# Altium schematic symbol library LP5036.SchLib: 1 symbol
Pins are listed as number, name and electrical type; pins without a type are passive.

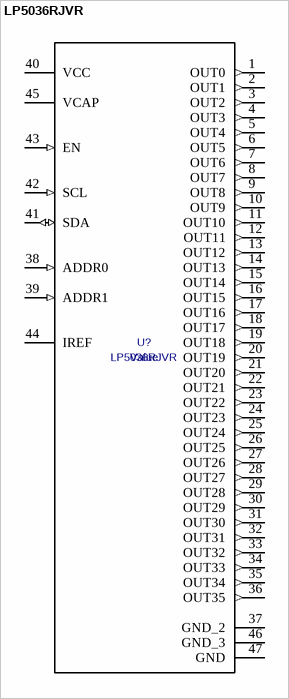
[diagram p0: symbol LP5036RJVR]

## LP5036RJVR
designator U?
Manufacturer: Texas Instruments; PartNumber: LP5036RJVR; Value: Value
footprint RJV0046A
pins: 1 OUT0 (out), 2 OUT1 (out), 3 OUT2 (out), 4 OUT3 (out), 5 OUT4 (out), 6 OUT5 (out), 7 OUT6 (out), 8 OUT7 (out), 9 OUT8 (out), 10 OUT9 (out), 11 OUT10 (out), 12 OUT11 (out), 13 OUT12 (out), 14 OUT13 (out), 15 OUT14 (out), 16 OUT15 (out), 17 OUT16 (out), 18 OUT17 (out), 19 OUT18 (out), 20 OUT19 (out), 21 OUT20 (out), 22 OUT21 (out), 23 OUT22 (out), 24 OUT23 (out), 25 OUT24 (out), 26 OUT25 (out), 27 OUT26 (out), 28 OUT27 (out), 29 OUT28 (out), 30 OUT29 (out), 31 OUT30 (out), 32 OUT31 (out), 33 OUT32 (out), 34 OUT33 (out), 35 OUT34 (out), 36 OUT35 (out), 37 GND_2 (power), 38 ADDR0 (in), 39 ADDR1 (in), 40 VCC (power), 41 SDA (io), 42 SCL (in), 43 EN (in), 44 IREF, 45 VCAP (power), 46 GND_3 (power), 47 GND (power)